# EAGLE library part WM9701A (library WM970x_RevLib)
TBD tbd
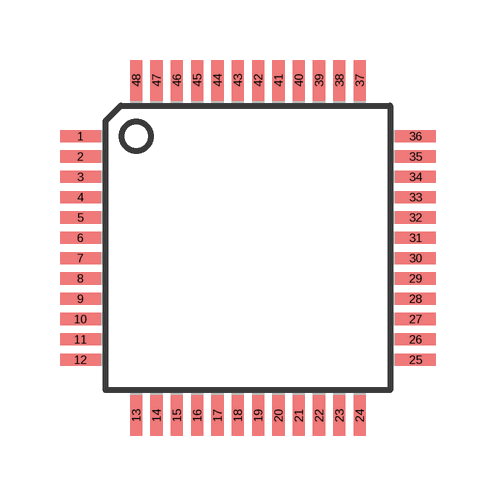
[diagram p0: symbol with the pads of TQFP48; footprint TQFP48]

Designator prefix IC

## WM9701AA  [TQFP48]
1  DVDD1  ?
2  XTLIN  ?
3  XTLOUT  ?
4  DVSS1  ?
5  SDATAOUT  ?
6  BITCLK  ?
7  DVSS2  ?
8  SDATAIN  ?
9  DVDD2  ?
10  SYNC  ?
11  RESETB  ?
12  PCBEEP  ?
13  PHONE  ?
14  AUXL  ?
15  AUXR  ?
16  VIDEOL  ?
17  VIDEOR  ?
18  CDL  ?
19  CDGND  ?
20  CDR  ?
21  MIC1  ?
22  MIC2  ?
23  LINEINL  ?
24  LINEINR  ?
25  AVDD1  ?
26  AVSS1  ?
27  VREF  ?
28  VREFOUT  ?
29  NC  ?
30  NC  ?
31  NC  ?
32  CAP2  ?
33  NC  ?
34  NC  ?
35  LINEOUTL  ?
36  LINEOUTR  ?
37  MONOOUT  ?
38  AVDD2  ?
39  NC  ?
40  NC  ?
41  NC  ?
42  AVSS2  ?
43  NC  ?
44  NC  ?
45  NC  ?
46  NC  ?
47  NC  ?
48  NC  ?

## Footprint TQFP48 (pad centres in mm)
Thin Plasic Quad Flat Package
smd 1.016 x 0.305: 1 -4.191,2.794; 2 -4.191,2.286; 3 -4.191,1.778; 4 -4.191,1.27; 5 -4.191,0.762; 6 -4.191,0.254; 7 -4.191,-0.254; 8 -4.191,-0.762; 9 -4.191,-1.27; 10 -4.191,-1.778; 11 -4.191,-2.286; 12 -4.191,-2.794; 25 4.191,-2.794; 26 4.191,-2.286; 27 4.191,-1.778; 28 4.191,-1.27; 29 4.191,-0.762; 30 4.191,-0.254; 31 4.191,0.254; 32 4.191,0.762; 33 4.191,1.27; 34 4.191,1.778; 35 4.191,2.286; 36 4.191,2.794
smd 0.305 x 1.016: 13 -2.794,-4.191; 14 -2.286,-4.191; 15 -1.778,-4.191; 16 -1.27,-4.191; 17 -0.762,-4.191; 18 -0.254,-4.191; 19 0.254,-4.191; 20 0.762,-4.191; 21 1.27,-4.191; 22 1.778,-4.191; 23 2.286,-4.191; 24 2.794,-4.191; 37 2.794,4.191; 38 2.286,4.191; 39 1.778,4.191; 40 1.27,4.191; 41 0.762,4.191; 42 0.254,4.191; 43 -0.254,4.191; 44 -0.762,4.191; 45 -1.27,4.191; 46 -1.778,4.191; 47 -2.286,4.191; 48 -2.794,4.191